# Altium integrated library DSM_VB2032-241203.IntLib: 24 symbols
Pins are listed as number, name and electrical type; pins without a type are passive.

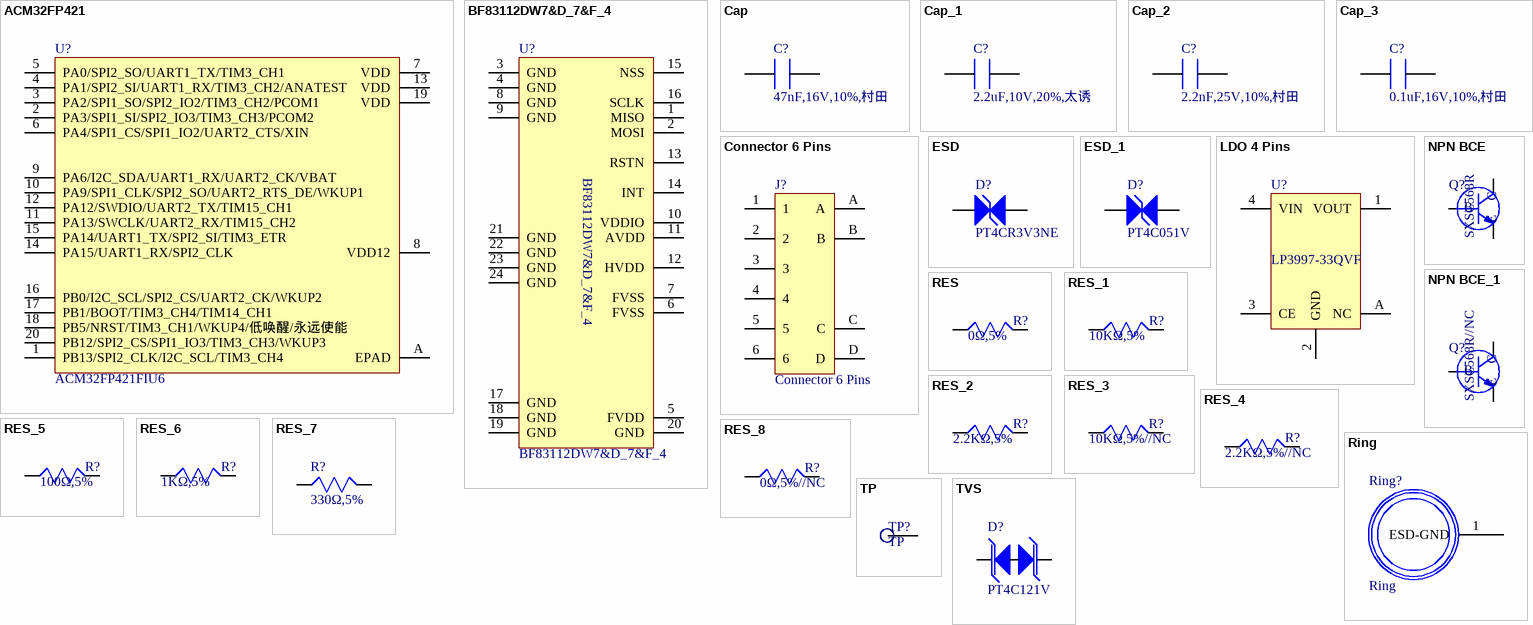
[diagram p0: symbols ACM32FP421 to TVS]

## ACM32FP421
designator U?, comment ACM32FP421FIU6
微控制单元; Material code: 3350000000037; supplier: 上海航芯电子科技股份有限公司
footprint QFN 20 3*3 Pitch 0.4
pins: 1 PB13/SPI2_CLK/I2C_SCL/TIM3_CH4, 2 PA3/SPI1_SI/SPI2_IO3/TIM3_CH3/PCOM2, 3 PA2/SPI1_SO/SPI2_IO2/TIM3_CH2/PCOM1, 4 PA1/SPI2_SI/UART1_RX/TIM3_CH2/ANATEST, 5 PA0/SPI2_SO/UART1_TX/TIM3_CH1, 6 PA4/SPI1_CS/SPI1_IO2/UART2_CTS/XIN, 7 VDD, 8 VDD12, 9 PA6/I2C_SDA/UART1_RX/UART2_CK/VBAT, 10 PA9/SPI1_CLK/SPI2_SO/UART2_RTS_DE/WKUP1, 11 PA13/SWCLK/UART2_RX/TIM15_CH2, 12 PA12/SWDIO/UART2_TX/TIM15_CH1, 13 VDD, 14 PA15/UART1_RX/SPI2_CLK, 15 PA14/UART1_TX/SPI2_SI/TIM3_ETR, 16 PB0/I2C_SCL/SPI2_CS/UART2_CK/WKUP2, 17 PB1/BOOT/TIM3_CH4/TIM14_CH1, 18 PB5/NRST/TIM3_CH1/WKUP4/低唤醒/永远使能, 19 VDD, 20 PB12/SPI2_CS/SPI1_IO3/TIM3_CH3/WKUP3, A EPAD

## BF83112DW7&D_7&F_4
designator U?
电容按压式指纹识别芯片; supplier: 深圳贝特莱电子科技股份有限公司; Material code: *
footprint BF83112DW7&D_7&F_4
footprint BF83112DW7&D_7&F_4
pins: 1 MISO, 2 MOSI, 3 GND, 4 GND, 5 FVDD, 6 FVSS, 7 FVSS, 8 GND, 9 GND, 10 VDDIO, 11 AVDD, 12 HVDD, 13 RSTN, 14 INT, 15 NSS, 16 SCLK, 17 GND, 18 GND, 19 GND, 20 GND, 21 GND, 22 GND, 23 GND, 24 GND

## Cap
designator C?, comment 47nF,16V,10%,村田
贴片电容; Material code: 3040100000024; supplier: 深圳市扬盛达科技有限公司
footprint C0603
footprint C0201
footprint C0402
footprint Cap0805
pins: 1, 2

## Cap_1
designator C?, comment 2.2uF,10V,20%,太诱
贴片电容; Material code: 3040000000063; supplier: 深圳市扬盛达科技有限公司
footprint C0603
footprint C0201
footprint C0402
footprint Cap0805
footprint CC0402-M
pins: 1, 2

## Cap_2
designator C?, comment 2.2nF,25V,10%,村田
贴片电容; Material code: 3040100000019; supplier: 深圳市扬盛达科技有限公司
footprint C0603
footprint C0201
footprint C0402
footprint Cap0805
pins: 1, 2

## Cap_3
designator C?, comment 0.1uF,16V,10%,村田
贴片电容; Material code: 3040100000012; supplier: 深圳市扬盛达科技有限公司
footprint C0603
footprint C0201
footprint C0402
footprint Cap0805
pins: 1, 2

## Connector 6 Pins
designator J?
连接器; supplier: 深圳市富美康电子有限公司; Material code: *
footprint OK-F501-06325
footprint 单面金手指 6 Pins 1.5*0.3 间距 0.5
footprint 卧贴 带耳朵 6 Pins 间距 1.25
footprint 0.5Pitch 拉拔立式全包正脚位 6Pins
footprint 立贴 不带耳朵 6 Pins 间距 1.0
footprint 立贴 不带耳朵 6 Pins 间距 0.8
footprint 0.5Pitch H=2.0 FPC ZIF 6Pins
footprint 卧贴 不带耳朵 6 Pins 间距 0.8
footprint 卧贴 不带耳朵 6 Pins 间距 1.0
footprint 0.5间距 6Pins 前掀盖 H1.0
footprint 6 Pins 0.5 Pitch掀盖卧式下接(H=1.5)
footprint 0.5 Pitch 6Pins 立式无锁正脚位(H=4.2)
footprint 立贴 不带耳朵 有卡扣位 6 Pins 间距 1.0
footprint A1004LF-06A (立贴 带卡扣 不带耳朵 6 Pins 间距 1.0)
footprint A1004LF-06A (立贴 带卡扣 不带耳朵 6 Pins 间距 1.0)
pins: 1, 2, 3, 4, 5, 6, A, B, C, D

## ESD
designator D?, comment PT4CR3V3NE
双向静电二极管; Material code: 3160100000178; supplier: 深圳市玛珂斯科技有限公司
footprint 0402
footprint SOD-923
footprint SOD-323
footprint SOD-962
pins: 1, 2

## ESD_1
designator D?, comment PT4C051V
双向静电二极管; Material code: 3160100000174; supplier: 深圳市玛珂斯科技有限公司
footprint SOD-923
footprint SOD-323
footprint SOD-962
footprint SOD-523
footprint DFN1006 0.35*0.6 Pitch 0.65
footprint DFN0603-2L 0.3*0.23 Pitch 0.38
pins: 1, 2

## LDO 4 Pins
designator U?, comment LP3997-33QVF
线性稳压器; supplier: 深圳市思派德科技有限公司; Material code: *
footprint DFN 1*1-4L
footprint DFN 1*1-4L
pins: 1 VOUT, 2 GND, 3 CE, 4 VIN, A NC

## NPN BCE
designator Q?, comment SXSC568R
NPN型三极管; Material code: 3160100000013; supplier: 深圳市扬盛达科技有限公司
footprint SC-89-3
footprint SOT-723
footprint SOT-723
pins: 1 B, 2 E, 3 C

## NPN BCE_1
designator Q?, comment SXSC568R//NC
NPN型三极管; Material code: 3160100000013; supplier: 深圳市扬盛达科技有限公司
footprint SC-89-3
footprint SOT-723
footprint SOT-723
footprint SOT-723
pins: 1 B, 2 E, 3 C

## RES
designator R?, comment 0Ω,5%
贴片电阻; Material code: 3050000000061; supplier: 深圳市扬盛达科技有限公司
footprint R0201
footprint R0402
footprint R0603
footprint R0805
pins: 1, 2

## RES_1
designator R?, comment 10KΩ,5%
贴片电阻; Material code: 3050000000004; supplier: 深圳市扬盛达科技有限公司
footprint R0201
footprint R0402
footprint R0603
footprint R0805
pins: 1, 2

## RES_2
designator R?, comment 2.2KΩ,5%
贴片电阻; Material code: 3050000000006; supplier: 深圳市扬盛达科技有限公司
footprint R0201
footprint R0402
footprint R0603
footprint R0805
pins: 1, 2

## RES_3
designator R?, comment 10KΩ,5%//NC
贴片电阻; Material code: 3050000000004; supplier: 深圳市扬盛达科技有限公司
footprint R0201
footprint R0402
footprint R0603
footprint R0805
pins: 1, 2

## RES_4
designator R?, comment 2.2KΩ,5%//NC
贴片电阻; Material code: 3050000000006; supplier: 深圳市扬盛达科技有限公司
footprint R0201
footprint R0402
footprint R0603
footprint R0805
pins: 1, 2

## RES_5
designator R?, comment 100Ω,5%
贴片电阻; Material code: 3050000000018; supplier: 深圳市扬盛达科技有限公司
footprint R0201
footprint R0402
footprint R0603
footprint R0805
pins: 1, 2

## RES_6
designator R?, comment 1KΩ,5%
贴片电阻; Material code: 3050000000003; supplier: 深圳市扬盛达科技有限公司
footprint R0201
footprint R0402
footprint R0603
footprint R0805
pins: 1, 2

## RES_7
designator R?, comment 330Ω,5%
贴片电阻; Material code: 3050000000007; supplier: 深圳市扬盛达科技有限公司
footprint R0201
footprint R0402
footprint R0603
footprint R0805
pins: 1, 2

## RES_8
designator R?, comment 0Ω,5%//NC
贴片电阻; Material code: 3050000000061; supplier: 深圳市扬盛达科技有限公司
footprint R0201
footprint R0402
footprint R0603
footprint R0805
pins: 1, 2

## Ring
designator Ring?
金属环; supplier: 深圳市添营精密科技有限公司&东莞市飞佳五金有限公司&东莞市盟展五金科技有限公司; Material code: *
footprint Ring (0402)
footprint Ring (直径0.4mm)
footprint Ring (直径0.4mm)
pins: 1 ESD-GND

## TP
designator TP?
非正常物料无需采购; Material code: 无; supplier: 非正常物料线路板厂会做好的
footprint TP（1.0*0.8）
footprint TP（2.0*1.2）
footprint TP（Φ0.3）
footprint TP（Φ0.5）
footprint TP（Φ1.0）
pins: 1

## TVS
designator D?, comment PT4C121V
双向瞬态抑制二极管; Material code: 3160100000173; supplier: 深圳市玛珂斯科技有限公司
footprint SOD-923
footprint DFN-2L Pitch 0.65
footprint SOD-962
pins: 1, 2